# Altium footprint library ARMflash_C_V5_1.PcbLib: 72 footprints (part 3 of 5)
Each footprint in its own frame and in the unit in brackets; x right, y up, seen from the top. Pads: shape width x height; smd on the part's side, far side on the other; paste and mask are expansions set on the pad; w line width, h text height; cw(c..) or ccw(c..) is an arc to the next point about the centre after c.
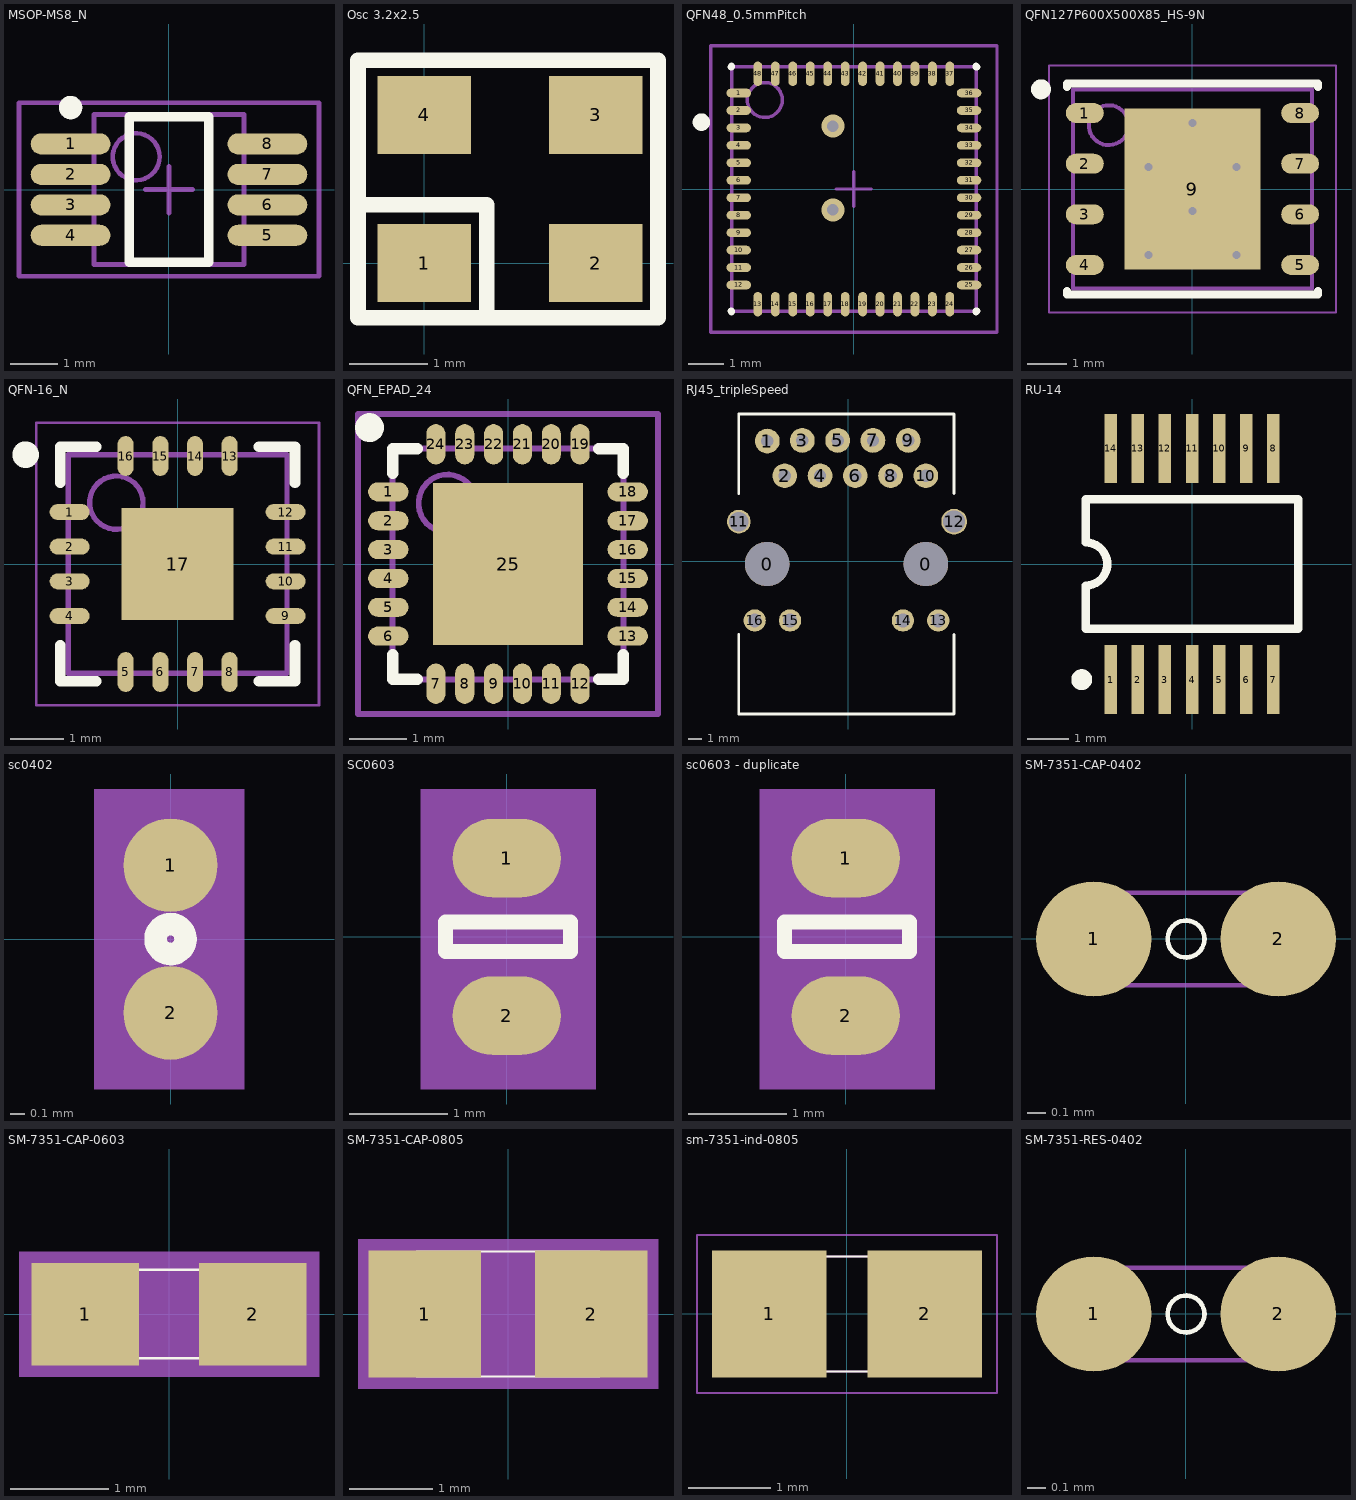
[diagram p2: the footprints below, top view; thin cyan lines are the x and y axes]

## MSOP-MS8_N [mm]
pads (8):
  oval 1.7x0.45 smd paste-0.01 mask+0.02: 1(-2.1,0.975) 2(-2.1,0.325) 3(-2.1,-0.325) 4(-2.1,-0.975) 5(2.1,-0.975) 6(2.1,-0.325) 7(2.1,0.325) 8(2.1,0.975)
Top Overlay:
  circle w0.25: c-2.1,1.75 r0.125
  lines w0.2: -0.85,-1.55 0.85,-1.55 0.85,1.55 -0.85,1.55 -0.85,-1.55
Mechanical 13:
  circle w0.1: c-0.7,0.7 r0.5
  lines w0.1: -1.6,-1.6 1.6,-1.6 1.6,1.6 -1.6,1.6 -1.6,-1.6
Mechanical 15:
  lines w0.1: -0.5,0 0.5,0 ; 0,-0.5 0,0.5 ; -3.2,-1.85 3.2,-1.85 3.2,1.85 -3.2,1.85 -3.2,-1.85
3D body: height 1.1, standoff 0, extent -1.6,-1.6 1.6,1.6

## Osc 3.2x2.5 [mm] "crystal oscillator"
height 1.05
pads (4):
  rect 1.2x1 smd paste-0.03: 1(0,0) 2(2.2,0) 3(2.2,1.9) 4(0,1.9)
Top Overlay:
  lines w0.2: -0.85,0.75 0.8,0.75 0.8,-0.7 ; -0.85,-0.7 3,-0.7 3,2.6 -0.85,2.6 -0.85,-0.7

## QFN48_0.5mmPitch [mm] "QFN 48 pin 0.5mm pitch"
height 0.8
pads (48):
  oval 0.7x0.25 smd paste-0.01 mask+0.05: 1(-3.3,2.75) 2(-3.3,2.25) 3(-3.3,1.75) 4(-3.3,1.25) 5(-3.3,0.75) 6(-3.3,0.25) 7(-3.3,-0.25) 8(-3.3,-0.75) 9(-3.3,-1.25) 10(-3.3,-1.75) 11(-3.3,-2.25) 12(-3.3,-2.75) 25(3.3,-2.75) 26(3.3,-2.25) 27(3.3,-1.75) 28(3.3,-1.25) 29(3.3,-0.75) 30(3.3,-0.25) 31(3.3,0.25) 32(3.3,0.75) 33(3.3,1.25) 34(3.3,1.75) 35(3.3,2.25) 36(3.3,2.75)
  oval 0.25x0.7 smd paste-0.01 mask+0.05: 13(-2.75,-3.3) 14(-2.25,-3.3) 15(-1.75,-3.3) 16(-1.25,-3.3) 17(-0.75,-3.3) 18(-0.25,-3.3) 19(0.25,-3.3) 20(0.75,-3.3) 21(1.25,-3.3) 22(1.75,-3.3) 23(2.25,-3.3) 24(2.75,-3.3) 37(2.75,3.3) 38(2.25,3.3) 39(1.75,3.3) 40(1.25,3.3) 41(0.75,3.3) 42(0.25,3.3) 43(-0.25,3.3) 44(-0.75,3.3) 45(-1.25,3.3) 46(-1.75,3.3) 47(-2.25,3.3) 48(-2.75,3.3)
via -0.6,1.8 diameter 0.66 hole 0.33
via -0.6,-0.6 diameter 0.66 hole 0.33
Top Overlay:
  circle w0.25: c-4.369,1.916 r0.125
  lines w0.2: -3.525,-3.5 -3.5,-3.5 -3.5,-3.525 ; -3.525,3.5 -3.5,3.5 -3.5,3.525 ; 3.5,-3.525 3.5,-3.5 3.525,-3.5 ; 3.5,3.525 3.5,3.5 3.525,3.5
Mechanical 13:
  circle w0.1: c-2.55,2.55 r0.5
  lines w0.1: -3.5,-3.5 -3.5,3.5 3.5,3.5 3.5,-3.5 -3.5,-3.5
Mechanical 15:
  lines w0.1: -0.5,0 0.5,0 ; 0,-0.5 0,0.5 ; -4.1,-4.1 -4.1,4.1 4.1,4.1 4.1,-4.1 -4.1,-4.1
3D body: height 0.8, standoff 0.01, extent -3.5,-3.5 3.5,3.5

## QFN127P600X500X85_HS-9N [mm] "QFN, 8-Leads, Body 6.00x5.00mm, Pitch 1.27mm, Thermal Pad 3.40x4.05mm, IPC Medium Density"
height 0.85
pads (9):
  oval 0.95x0.5 smd paste-0.01: 1(-2.7,1.905) 2(-2.7,0.635) 3(-2.7,-0.635) 4(-2.7,-1.905) 5(2.7,-1.905) 6(2.7,-0.635) 7(2.7,0.635) 8(2.7,1.905)
  rect 3.4x4.05 smd paste-0.03: 9(0,0)
via 1.1,-1.65 diameter 0.5 hole 0.2
via 0,-0.55 diameter 0.5 hole 0.2
via 1.1,0.55 diameter 0.5 hole 0.2
via -1.1,0.55 diameter 0.5 hole 0.2
via 0,1.65 diameter 0.5 hole 0.2
via -1.1,-1.65 diameter 0.5 hole 0.2
Top Overlay:
  circle w0.25: c-3.8,2.5 r0.125
  lines w0.2: -3.15,-2.555 -3.15,-2.65 -0.015,-2.65 ; -3.15,2.555 -3.15,2.65 -0.015,2.65 ; 0.015,-2.65 3.15,-2.65 3.15,-2.555 ; 0.015,2.65 3.15,2.65 3.15,2.555
Mechanical 13:
  circle w0.1: c-2.1,1.6 r0.5
  lines w0.1: -3,-2.5 3,-2.5 3,2.5 -3,2.5 -3,-2.5
Mechanical 15:
  lines w0.05: -3.6,-3.1 3.6,-3.1 3.6,3.1 -3.6,3.1 -3.6,-3.1
  lines w0.1: -0.5,0 0.5,0 ; 0,-0.5 0,0.5
3D body: height 0.85, standoff 0.01, extent -3,-2.5 3,2.5

## QFN-16_N [mm]
pads (17):
  oval 0.75x0.3 smd paste-0.01: 1(-2.025,0.975) 2(-2.025,0.325) 3(-2.025,-0.325) 4(-2.025,-0.975) 9(2.025,-0.975) 10(2.025,-0.325) 11(2.025,0.325) 12(2.025,0.975)
  oval 0.3x0.75 smd paste-0.01: 5(-0.975,-2.025) 6(-0.325,-2.025) 13(0.975,2.025) 14(0.325,2.025) 15(-0.325,2.025) 16(-0.975,2.025)
  oval 0.3x0.75 smd paste-0.01 mask+0.05: 7(0.325,-2.025) 8(0.975,-2.025)
  rect 2.1x2.1 smd paste-0.03: 17(0,0)
Top Overlay:
  circle w0.25: c-2.85,2.05 r0.125
  lines w0.2: -2.2,-1.525 -2.2,-2.2 -1.525,-2.2 ; -2.2,1.525 -2.2,2.2 -1.525,2.2 ; 1.525,-2.2 2.2,-2.2 2.2,-1.525 ; 1.525,2.2 2.2,2.2 2.2,1.525
Top Paste:
  rectangle: -0.95,-0.95 0.95,0.95
Mechanical 13:
  circle w0.1: c-1.15,1.15 r0.5
  lines w0.1: -2.05,-2.05 -2.05,2.05 2.05,2.05 2.05,-2.05 -2.05,-2.05
Mechanical 15:
  lines w0.05: -2.65,-2.65 -2.65,2.65 2.65,2.65 2.65,-2.65 -2.65,-2.65
  lines w0.1: -0.5,0 0.5,0 ; 0,-0.5 0,0.5
3D body: height 0.8, standoff 0, extent -2.05,-2.05 2.05,2.05

## QFN_EPAD_24 [mm]
height 0.95
pads (25):
  oval 0.7x0.33 smd paste-0.03 mask+0.03: 1(-2.075,1.25) 2(-2.075,0.75) 3(-2.075,0.25) 4(-2.075,-0.25) 5(-2.075,-0.75) 6(-2.075,-1.25) 13(2.075,-1.25) 14(2.075,-0.75) 15(2.075,-0.25) 16(2.075,0.25) 17(2.075,0.75) 18(2.075,1.25)
  oval 0.33x0.7 smd paste-0.03 mask+0.03: 7(-1.25,-2.075) 8(-0.75,-2.075) 9(-0.25,-2.075) 10(0.25,-2.075) 11(0.75,-2.075) 12(1.25,-2.075) 19(1.25,2.075) 20(0.75,2.075) 21(0.25,2.075) 22(-0.25,2.075) 23(-0.75,2.075) 24(-1.25,2.075)
  rect 2.6x2.8 smd paste-0.03: 25(0,0)
Top Overlay:
  circle w0.25: c-2.4,2.364 r0.125
  lines w0.2: -2,-1.575 -2,-2 -1.575,-2 ; -2,1.575 -2,2 -1.575,2 ; 1.575,-2 2,-2 2,-1.575 ; 1.575,2 2,2 2,1.575
Mechanical 13:
  circle w0.1: c-1.05,1.05 r0.5
  lines w0.1: -2,-2 -2,2 2,2 2,-2 -2,-2
Mechanical 15:
  lines w0.1: -0.5,0 0.5,0 ; 0,-0.5 0,0.5 ; -2.6,-2.6 -2.6,2.6 2.6,2.6 2.6,-2.6 -2.6,-2.6
3D body: height 0.95, standoff 0.05, extent -2,-2 2,2

## RJ45_tripleSpeed [mil]
pads (18):
  round 125.98 hole 125.98 unplated paste-1.18: 0(-230,-8) 0(220,-8)
  round 70 hole 35 paste-1.18: 1(-229.21,340.43) 2(-180,242) 3(-130,342) 4(-80,242) 5(-30,342) 6(20,242) 7(70,342) 8(120,242) 9(170,342) 10(220,242)
  round 66.93 hole 55.12 paste-1.18: 11(-310,112)
  round 72.83 hole 61.81 paste-1.18: 12(300,112)
  round 62.99 hole 39.37 paste-1.18: 13(255,-168) 14(155,-168) 15(-165,-168) 16(-265,-168)
Top Overlay:
  lines w7.87: -310,-208 -310,-433 300,-433 300,-208 ; -310,192 -310,417 300,417 300,192

## RU-14 [mm] "Shrink Small Outline, TSSOP; 14 Leads; Body Width 4.4 mm; Pitch 0.65 mm"
height 1.2
pads (14):
  rect 0.3x1.65 smd paste-0.03 mask+0.03: 1(-1.95,-2.775) 2(-1.3,-2.775) 3(-0.65,-2.775) 4(0,-2.775) 5(0.65,-2.775) 6(1.3,-2.775) 7(1.95,-2.775) 8(1.95,2.775) 9(1.3,2.775) 10(0.65,2.775) 11(0,2.775) 12(-0.65,2.775) 13(-1.3,2.775) 14(-1.95,2.775)
Top Overlay:
  circle w0.25: c-2.65,-2.775 r0.125
  lines w0.2: -2.55,-1.55 2.55,-1.55 2.55,1.55 -2.55,1.55 -2.55,0.517 cw(c-2.55,0) -2.55,-0.517 -2.55,-1.55

## sc0402 [mm]
height 2.4
pads (2):
  round 0.635 smd paste-0.01: 1(0,0.5) 2(0,-0.5)
Top Overlay:
  circle w0.152: c0,0 r0.102
Mechanical 16:
  region: -0.518,1.017 -0.518,-1.015 0.498,-1.015 0.498,1.017
  lines w0.051: -0.264,-0.507 0.244,-0.507 0.244,0.509 -0.264,0.509 -0.264,-0.507

## SC0603 [mm]
pads (2):
  oval 1.1x0.8 smd paste-0.01: 1(0,0.8) 2(0,-0.8)
Top Overlay:
  lines w0.152: -0.623,-0.148 0.647,-0.148 0.647,0.15 -0.623,0.15 -0.623,-0.148
Mechanical 16:
  region: 0.901,1.503 0.901,-1.545 -0.877,-1.545 -0.877,1.503
  lines w0.051: -0.75,-1.418 -0.75,1.376 0.774,1.376 0.774,-1.418 -0.75,-1.418

## sc0603 - duplicate [mm]
pads (2):
  oval 1.1x0.8 smd paste-0.01: 1(0,0.8) 2(0,-0.8)
Top Overlay:
  lines w0.152: -0.623,-0.148 -0.623,0.15 0.647,0.15 0.647,-0.148 -0.623,-0.148
Mechanical 16:
  region: 0.901,1.503 0.901,-1.545 -0.877,-1.545 -0.877,1.503
  lines w0.051: -0.75,-1.418 0.774,-1.418 0.774,1.376 -0.75,1.376 -0.75,-1.418

## SM-7351-CAP-0402 [mil]
pads (2):
  round 25 smd paste-0.39: 1(-20,0) 2(20,0)
Top Overlay:
  circle w1: c0,0 r4
Mechanical 16:
  lines w1: -20,-10 20,-10 20,10 -20,10 -20,-10
  text "1" at -28.03,0 h20.08
  text "2" at 11.97,0 h20.08

## SM-7351-CAP-0603 [mil] "SM-7351-CAP-0603"
pads (2):
  rect 43x41 smd paste-1.18: 1(-33.46,0) 2(33.46,0)
Top Overlay:
  lines w1: -33.46,-17.72 -33.46,17.72 33.46,17.72 33.46,-17.72 -33.46,-17.72
Mechanical 16:
  region: -60,-25 -60,25 60,25 60,-25
  lines w1: -33.46,-17.72 -33.46,17.72 33.46,17.72 33.46,-17.72 -33.46,-17.72
  text "2" at 27.48,0 h14.96
  text "1" at -39.44,0 h14.96

## SM-7351-CAP-0805 [mil] "SM-7351-CAP-0805"
pads (2):
  rect 53x60 smd paste-1.18: 1(-39.37,0) 2(39.37,0)
Top Overlay:
  lines w1: -43.31,-29.53 43.31,-29.53 43.31,29.53 -43.31,29.53 -43.31,-29.53
Mechanical 16:
  region: -70.87,-35.43 -70.87,35.43 70.87,35.43 70.87,-35.43
  lines w1: -43.31,-29.53 43.31,-29.53 43.31,29.53 -43.31,29.53 -43.31,-29.53
  text "1" at -39.37,-5.98 h14.96
  text "2" at 39.37,-5.98 h14.96

## sm-7351-ind-0805 [mil]
pads (2):
  rect 55x61 smd paste-1.18: 1(-37.4,0) 2(37.4,0)
Top Overlay:
  lines w1: -43.31,-27.56 43.31,-27.56 43.31,27.56 -43.31,27.56 -43.31,-27.56
Mechanical 16:
  lines w1: -72,-38 72,-38 72,38 -72,38 -72,-38 ; -43.31,-27.56 43.31,-27.56 43.31,27.56 -43.31,27.56 -43.31,-27.56
  text "1" at -37.4,10 h25
  text "2" at 37.4,10 h25

## SM-7351-RES-0402 [mil]
pads (2):
  round 25 smd paste-0.39: 1(-20,0) 2(20,0)
Top Overlay:
  circle w1: c0,0 r4
Mechanical 16:
  lines w1: -20,-10 20,-10 20,10 -20,10 -20,-10